# EAGLE library part LT3756 (library LED-drivers)
100VIN, 100VOUT LED Controller In MSOP16 package with exposed pad The LT®3756, LT3756-1 and LT3756-2 are DC/DC controllers designed to operate as a constant-current source for driving high current LEDs. They drive a low side external N-channel power MOSFET from an internal regulated 7.15V supply. The fixed frequency, current-mode architecture results in stable operation over a wide range of supply and output voltages. A ground referenced voltage FB pin serves as the input for several LED protection features, and also makes it possible for the converter to operate as a constant-voltage source. A frequency adjust pin allows the user to program the frequency from 100kHz to 1MHz to optimize efficiency, performance or external component size. The LT3756/LT3756-1/LT3756-2 sense output current at the high side of the LED string. High side current sensing is the most flexible scheme for driving LEDs, allowing boost, buck mode or buck-boost mode configuration. The PWM input provides LED dimming ratios of up to 3000:1, and the CTRL input provides additional analog dimming capability.
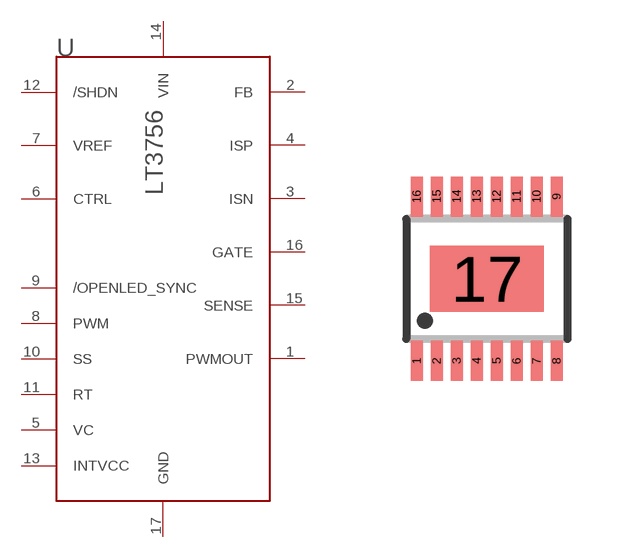
[diagram p0: symbol with the pads of MSOP16EXP; footprint MSOP16EXP]

Designator prefix U

## LT3756EMSE  [MSOP16EXP]
1  PWMOUT
2  FB
3  ISN
4  ISP
5  VC
6  CTRL
7  VREF  out
8  PWM
9  /OPENLED_SYNC  out
10  SS
11  RT
12  /SHDN
13  INTVCC  pwr
14  VIN  pwr
15  SENSE
16  GATE
17  GND  pwr

## Footprint MSOP16EXP (pad centres in mm)
16 Lead Platic MSOP with exposed pad
smd 0.3 x 1: 1 -1.75,-2.05; 2 -1.25,-2.05; 3 -0.75,-2.05; 4 -0.25,-2.05; 5 0.25,-2.05; 6 0.75,-2.05; 7 1.25,-2.05; 8 1.75,-2.05; 9 1.75,2.06; 10 1.25,2.06; 11 0.75,2.06; 12 0.25,2.06; 13 -0.25,2.06; 14 -0.75,2.06; 15 -1.25,2.06; 16 -1.75,2.06
smd 2.845 x 1.651: 17 0,0